# Altium schematic symbol library IC-ADC-DAC.SchLib: 6 symbols
Pins are listed as number, name and electrical type; pins without a type are passive.

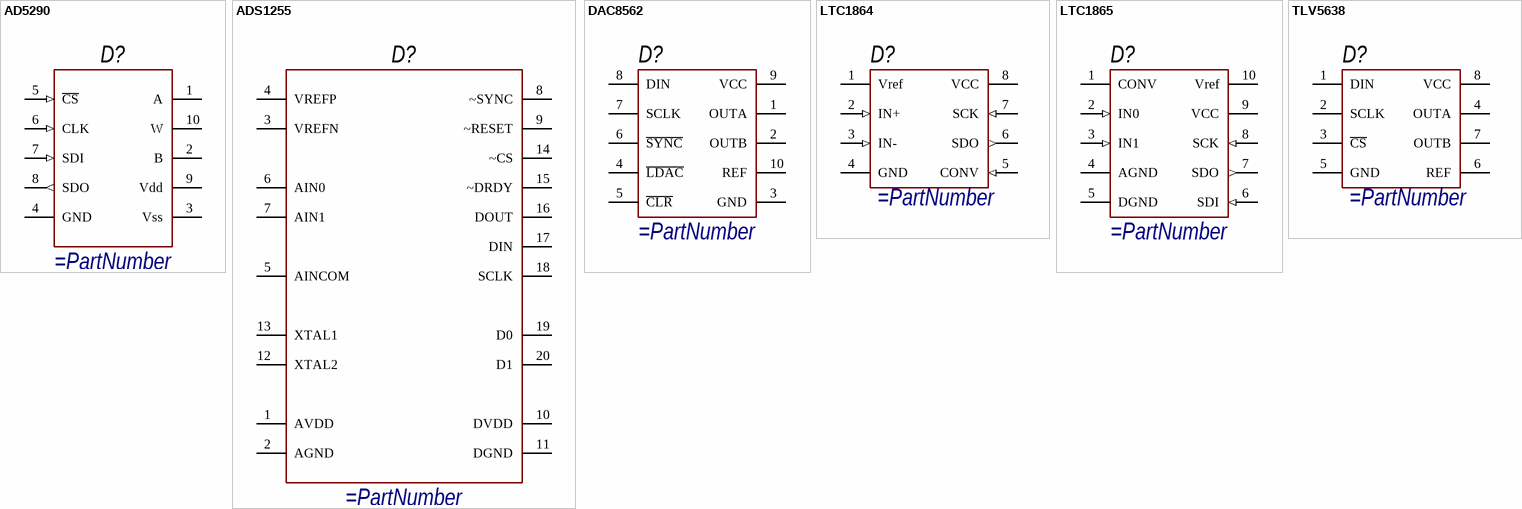
[diagram p0: symbols AD5290 to TLV5638]

## AD5290
designator D?
Compact +30 V / ±15 V 256-Position Digital Potentiometer
pins: 1 A, 2 B, 3 Vss (power), 4 GND (power), 5 ~{CS} (in), 6 CLK (in), 7 SDI (in), 8 SDO (out), 9 Vdd (power), 10 W

## ADS1255
designator D?
pins: 1 AVDD, 2 AGND, 3 VREFN, 4 VREFP, 5 AINCOM, 6 AIN0, 7 AIN1, 8 ~SYNC, 9 ~RESET, 10 DVDD, 11 DGND, 12 XTAL2, 13 XTAL1, 14 ~CS, 15 ~DRDY, 16 DOUT, 17 DIN, 18 SCLK, 19 D0, 20 D1

## DAC8562
designator D?
pins: 1 OUTA, 2 OUTB, 3 GND, 4 ~{LDAC}, 5 ~{CLR}, 6 ~{SYNC}, 7 SCLK, 8 DIN, 9 VCC, 10 REF

## LTC1864
designator D?
pins: 1 Vref, 2 IN+ (in), 3 IN- (in), 4 GND (power), 5 CONV (in), 6 SDO (out), 7 SCK (in), 8 VCC (power)

## LTC1865
designator D?
pins: 1 CONV, 2 IN0 (in), 3 IN1 (in), 4 AGND (power), 5 DGND (power), 6 SDI (in), 7 SDO (out), 8 SCK (in), 9 VCC (power), 10 Vref (power)

## TLV5638
designator D?
pins: 1 DIN, 2 SCLK, 3 ~{CS}, 4 OUTA, 5 GND, 6 REF, 7 OUTB, 8 VCC